# Altium footprint library DClassAmp_Footprints.PcbLib: 20 footprints (part 1 of 2)
Each footprint in its own frame and in the unit in brackets; x right, y up, seen from the top. Pads: shape width x height; smd on the part's side, far side on the other; paste and mask are expansions set on the pad; w line width, h text height; cw(c..) or ccw(c..) is an arc to the next point about the centre after c.
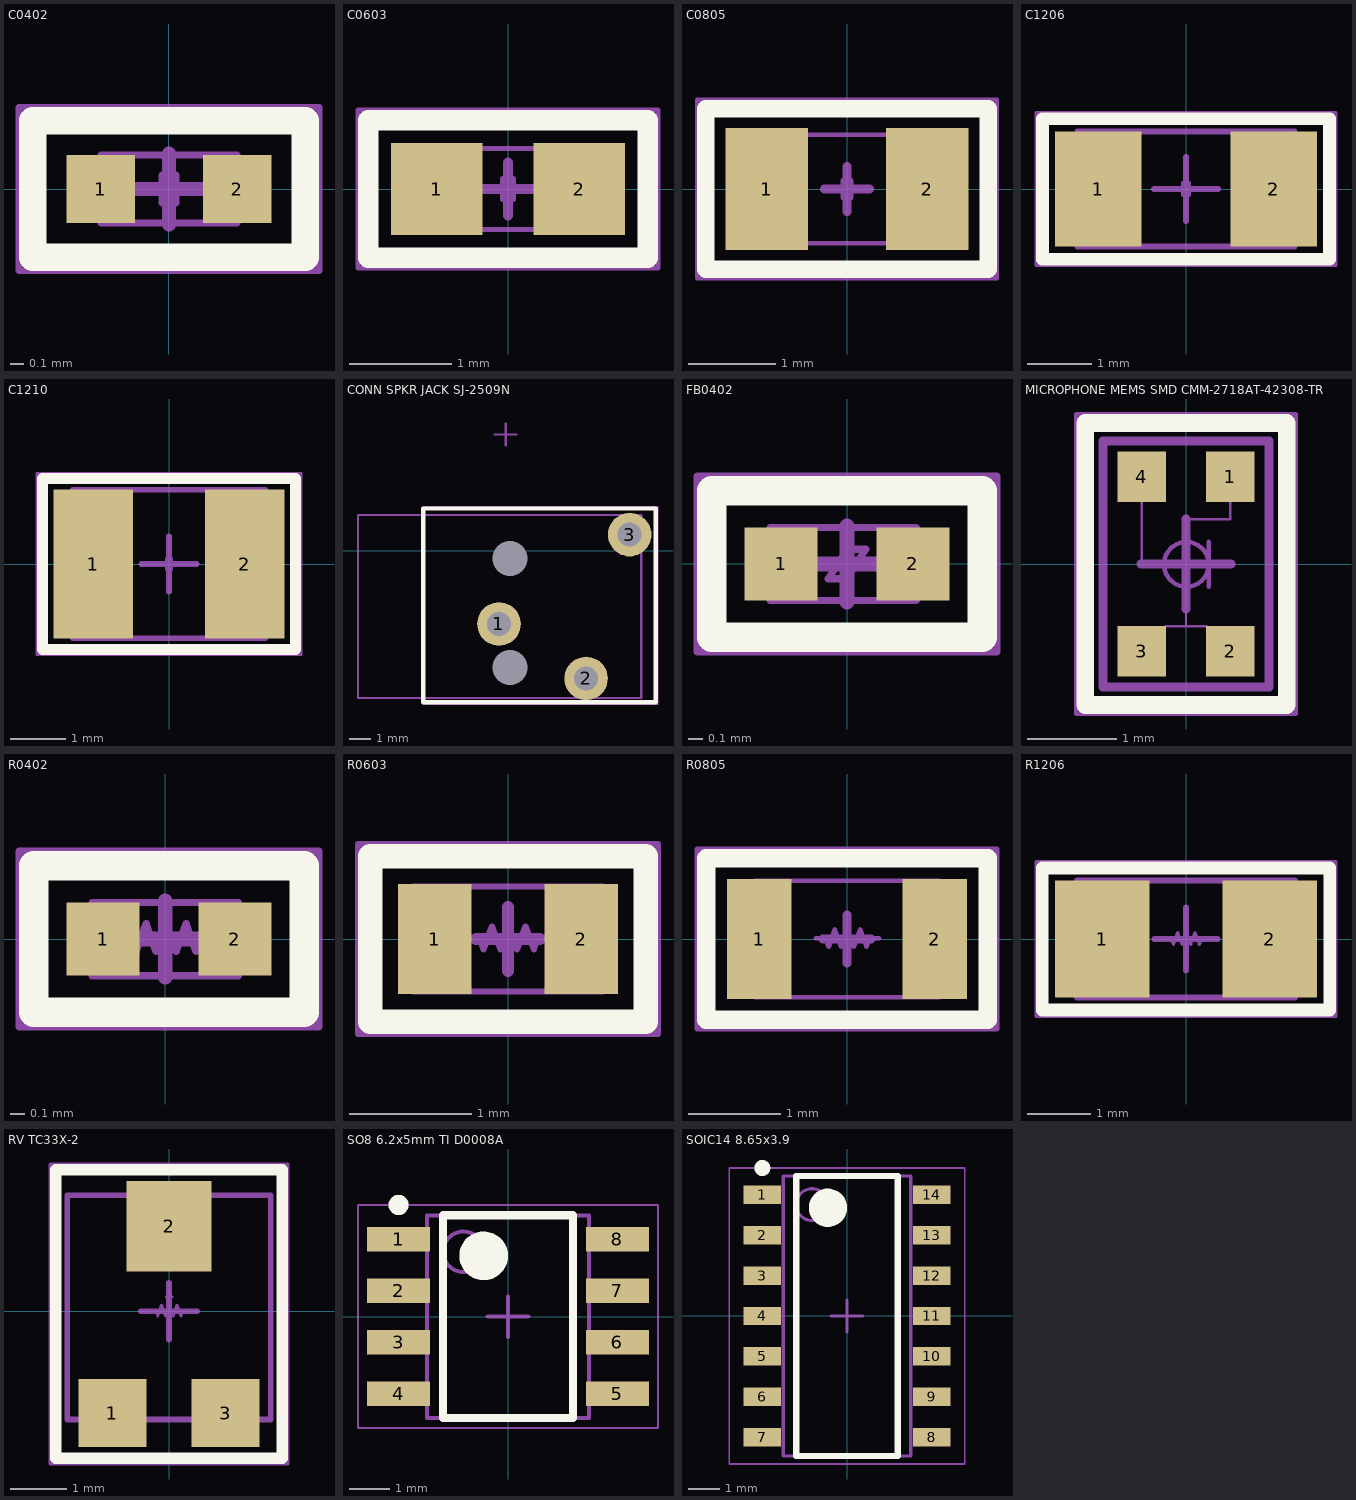
[diagram p0: the footprints below, top view; thin cyan lines are the x and y axes]

## C0402 [mm]
pads (2):
  rect 0.5x0.5 smd: 1(-0.5,0) 2(0.5,0)
Top Overlay:
  lines w0.2: -1,-0.5 1,-0.5 1,0.5 -1,0.5 -1,0 -1,-0.5
Mechanical 13:
  lines w0.05: -0.255,0 -0.052,0 ; -0.052,-0.102 -0.052,0.102 ; 0.052,-0.102 0.052,0.102 ; 0.052,0 0.255,0 ; -0.5,-0.25 0.5,-0.25 0.5,0.25 -0.5,0.25 -0.5,-0.25
Mechanical 15:
  lines w0.05: -1.1,-0.6 1.1,-0.6 1.1,0.6 -1.1,0.6 -1.1,-0.6
  lines w0.1: -0.26,0 0.26,0 ; 0,-0.26 0,0.26
3D body "User Library-SMD CAPACITOR.step": height 0.51, standoff 0.01, extent -0.5,-0.25 0.5,0.25

## C0603 [mm]
pads (2):
  rect 0.9x0.9 smd: 1(-0.7,0) 2(0.7,0)
Top Overlay:
  lines w0.2: -1.375,-0.675 -1.375,0.175 -1.375,0.675 1.375,0.675 1.375,-0.675 -1.375,-0.675
Mechanical 13:
  lines w0.05: -0.255,0 -0.052,0 ; -0.052,-0.102 -0.052,0.102 ; 0.052,-0.102 0.052,0.102 ; 0.052,0 0.255,0 ; -0.8,-0.4 0.8,-0.4 0.8,0.4 -0.8,0.4 -0.8,-0.4
Mechanical 15:
  lines w0.05: -1.475,-0.775 -1.475,0.775 1.475,0.775 1.475,-0.775 -1.475,-0.775
  lines w0.1: -0.26,0 0.26,0 ; 0,-0.26 0,0.26
3D body "User Library-SMD CAPACITOR (1).step": height 0.81, standoff 0.01, extent -0.8,-0.4 0.8,0.4

## C0805 [mm]
pads (2):
  rect 0.95x1.4 smd: 1(-0.925,0) 2(0.925,0)
Top Overlay:
  lines w0.2: -1.625,-0.925 -1.625,-0.425 -1.625,0.925 1.625,0.925 1.625,-0.925 -1.625,-0.925
Mechanical 13:
  lines w0.05: -0.255,0 -0.052,0 ; -0.052,-0.102 -0.052,0.102 ; 0.052,-0.102 0.052,0.102 ; 0.052,0 0.255,0 ; -1,-0.625 -1,0.625 1,0.625 1,-0.625 -1,-0.625
Mechanical 15:
  lines w0.05: -1.725,-1.025 1.725,-1.025 1.725,1.025 -1.725,1.025 -1.725,-1.025
  lines w0.1: -0.26,0 0.26,0 ; 0,-0.26 0,0.26
3D body "User Library-SMD CAPACITOR (2).step": height 0.61, standoff 0.01, extent -1,-0.625 1,0.625

## C1206 [mm] "Chip Capacitor, 2-Leads, Body 3.20x1.60mm, IPC Medium Density"
height 1.8
pads (2):
  rect 1.35x1.8 smd: 1(-1.375,0) 2(1.375,0)
Top Overlay:
  lines w0.2: -2.25,-1.1 -2.25,1.1 2.25,1.1 2.25,-1.1 -2.25,-1.1
Mechanical 13:
  lines w0.05: -0.255,0 -0.052,0 ; -0.052,-0.102 -0.052,0.102 ; 0.052,-0.102 0.052,0.102 ; 0.052,0 0.255,0
  lines w0.1: -1.7,-0.9 -1.7,0.9 1.7,0.9 1.7,-0.9 -1.7,-0.9
Mechanical 15:
  lines w0.05: -2.35,-1.2 -2.35,1.2 2.35,1.2 2.35,-1.2 -2.35,-1.2
  lines w0.1: -0.5,0 0.5,0 ; 0,-0.5 0,0.5
3D body "CAPCP3216X18N.step": height 1.8, standoff 0, extent -1.7,-0.9 1.7,0.9

## C1210 [mm] "Chip Capacitor, 2-Leads, Body 3.20x2.50mm, IPC Medium Density"
height 2.7
pads (2):
  rect 1.45x2.7 smd: 1(-1.375,0) 2(1.375,0)
Top Overlay:
  lines w0.2: -2.3,-1.55 -2.3,1.55 2.3,1.55 2.3,-1.55 -2.3,-1.55
Mechanical 13:
  lines w0.05: -0.255,0 -0.052,0 ; -0.052,-0.102 -0.052,0.102 ; 0.052,-0.102 0.052,0.102 ; 0.052,0 0.255,0
  lines w0.1: -1.75,-1.35 1.75,-1.35 1.75,1.35 -1.75,1.35 -1.75,-1.35
Mechanical 15:
  lines w0.05: -2.4,-1.65 2.4,-1.65 2.4,1.65 -2.4,1.65 -2.4,-1.65
  lines w0.1: -0.5,0 0.5,0 ; 0,-0.5 0,0.5
3D body "CAPCP3225X27N.step": height 2.7, standoff 0, extent -1.75,-1.35 1.75,1.35

## CONN SPKR JACK SJ-2509N [mm]
pads (5):
  round 2 hole 1.1: 1(-9.708,-3.365) 2(-5.708,-5.866) 3(-3.708,0.734)
  round 0 hole 1.6 unplated: 4(-9.208,-5.366) 5(-9.208,-0.366)
Top Overlay:
  lines w0.2: -13.179,-6.958 -13.179,1.934 -2.508,1.934 -2.508,-6.958 -13.179,-6.958
Mechanical 13:
  lines w0.1: -16.179,-6.758 -16.179,1.642 -3.179,1.642 -3.179,-6.758 -16.179,-6.758
Mechanical 15:
  lines w0.05: -13.179,-7.058 -13.179,2.034 -2.408,2.034 -2.408,-7.058 -13.179,-7.058
  lines w0.1: -9.898,5.334 -8.898,5.334 ; -9.398,4.834 -9.398,5.834
3D body "CUI_DEVICES_SJ-2509N.step": height 5.02, standoff -2.18, extent -16.179,-6.758 -3.179,1.642

## FB0402 [mm]
pads (2):
  rect 0.5x0.5 smd: 1(-0.45,0) 2(0.45,0)
Top Overlay:
  lines w0.2: -0.925,-0.5 -0.925,0.5 0.925,0.5 0.925,-0.5 -0.925,-0.5
Mechanical 13:
  lines w0.05: -0.267,0 -0.064,0 ; 0.267,0 0.064,0 ; -0.064,0 0,0.1 0.127,0.1 0.064,0 ; -0.064,0 -0.127,-0.1 0,-0.1 0.064,0 ; -0.525,-0.25 0.475,-0.25 0.475,0.25 -0.525,0.25 -0.525,-0.25
Mechanical 15:
  lines w0.05: -1.025,-0.6 1.025,-0.6 1.025,0.6 -1.025,0.6 -1.025,-0.6
  lines w0.1: -0.26,0 0.26,0 ; 0,-0.26 0,0.26
3D body "User Library-CR1005-0402.step": height 0.36, standoff 0.01, extent -0.525,-0.25 0.475,0.25

## MICROPHONE MEMS SMD CMM-2718AT-42308-TR [mm]
pads (4):
  rect 0.54x0.56 smd: 1(0.495,0.975) 2(0.495,-0.975) 3(-0.495,-0.975) 4(-0.495,0.975)
Top Overlay:
  lines w0.2: -1.125,-1.575 1.125,-1.575 1.125,1.575 -1.125,1.575 -1.125,-1.575
Mechanical 1:
  circle w0.05: c0.004,-0.004 r0.25
  lines w0.025: -0.495,0.695 -0.495,0 -0.246,0 ; -0.225,-0.695 0.225,-0.695 ; 0,-0.695 0,-0.254 ; 0,0.246 0,0.5 0.495,0.5 0.495,0.695
  lines w0.05: 0.254,-0.254 0.254,0.246
Mechanical 13:
  lines w0.1: -0.925,-1.375 0.925,-1.375 0.925,1.375 -0.925,1.375 -0.925,-1.375
Mechanical 15:
  lines w0.05: -1.225,-1.675 1.225,-1.675 1.225,1.675 -1.225,1.675 -1.225,-1.675
  lines w0.1: -0.5,0 0.5,0 ; 0,-0.5 0,0.5
3D body "CUI_DEVICES_CMM-2718AT-42308-TR.step": height 0.95, standoff 0, extent -0.925,-1.375 0.925,1.375

## R0402 [mm]
pads (2):
  rect 0.5x0.5 smd: 1(-0.425,0) 2(0.475,0)
Top Overlay:
  lines w0.2: -0.9,-0.5 -0.9,0.5 0.95,0.5 0.95,-0.5 -0.9,-0.5
Mechanical 13:
  lines w0.05: -0.335,0.009 -0.234,0.009 -0.2,-0.085 -0.131,0.103 -0.063,-0.085 0.006,0.103 0.074,-0.085 0.142,0.103 0.211,-0.085 0.245,0.009 0.347,0.009 ; -0.5,-0.25 0.5,-0.25 0.5,0.25 -0.5,0.25 -0.5,-0.25
Mechanical 15:
  lines w0.05: -1,-0.6 1.05,-0.6 1.05,0.6 -1,0.6 -1,-0.6
  lines w0.1: -0.26,0 0.26,0 ; 0,-0.26 0,0.26
3D body "User Library-CR1005-0402.step": height 0.36, standoff 0.01, extent -0.5,-0.25 0.5,0.25

## R0603 [mm]
pads (2):
  rect 0.6x0.9 smd: 1(-0.6,0) 2(0.6,0)
Top Overlay:
  lines w0.2: -1.125,-0.675 -1.125,0.175 -1.125,0.675 1.125,0.675 1.125,-0.675 -1.125,-0.675
Mechanical 13:
  lines w0.05: -0.335,0.01 -0.234,0.01 -0.199,-0.084 -0.131,0.103 -0.063,-0.084 0.006,0.103 0.074,-0.084 0.143,0.103 0.211,-0.084 0.245,0.01 0.347,0.01 ; -0.775,-0.43 -0.775,0.43 0.775,0.43 0.775,-0.43 -0.775,-0.43
Mechanical 15:
  lines w0.05: -1.225,-0.775 1.225,-0.775 1.225,0.775 -1.225,0.775 -1.225,-0.775
  lines w0.1: -0.26,0 0.26,0 ; 0,-0.26 0,0.26
3D body "User Library-SMD Resistors.step": height 0.46, standoff 0.01, extent -0.775,-0.43 0.775,0.43

## R0805 [mm]
pads (2):
  rect 0.7x1.3 smd: 1(-0.95,0) 2(0.95,0)
Top Overlay:
  lines w0.2: -1.525,-0.875 1.525,-0.875 1.525,0.875 -1.525,0.875 -1.525,0.125 -1.525,-0.875
Mechanical 13:
  lines w0.05: -0.335,0.009 -0.234,0.009 -0.2,-0.085 -0.131,0.103 -0.063,-0.085 0.006,0.103 0.074,-0.085 0.142,0.103 0.211,-0.085 0.245,0.009 0.347,0.009 ; -1,-0.63 1,-0.63 1,0.63 -1,0.63 -1,-0.63
Mechanical 15:
  lines w0.05: -1.625,-0.975 1.625,-0.975 1.625,0.975 -1.625,0.975 -1.625,-0.975
  lines w0.1: -0.26,0 0.26,0 ; 0,-0.26 0,0.26
3D body "User Library-SMD Resistors (1).step": height 0.46, standoff 0.01, extent -1,-0.63 1,0.63

## R1206 [mm] "Chip Resistor, 2-Leads, Body 3.20x1.60mm, IPC Medium Density"
height 0.65
pads (2):
  rect 1.5x1.85 smd: 1(-1.325,0) 2(1.325,0)
Top Overlay:
  lines w0.2: -2.275,-1.125 -2.275,1.125 2.275,1.125 2.275,-1.125 -2.275,-1.125
Mechanical 13:
  lines w0.05: -0.335,0.009 -0.234,0.009 -0.2,-0.085 -0.131,0.103 -0.063,-0.085 0.006,0.103 0.074,-0.085 0.142,0.103 0.211,-0.085 0.245,0.009 0.347,0.009
  lines w0.1: -1.725,-0.925 -1.725,0.925 1.725,0.925 1.725,-0.925 -1.725,-0.925
Mechanical 15:
  lines w0.05: -2.375,-1.225 -2.375,1.225 2.375,1.225 2.375,-1.225 -2.375,-1.225
  lines w0.1: -0.5,0 0.5,0 ; 0,-0.5 0,0.5
3D body "RESC3216X06N.step": height 0.65, standoff 0, extent -1.725,-0.925 1.725,0.925

## R2512 [mm]

## RV TC33X-2 [mm]
pads (3):
  rect 1.2x1.2 smd: 1(-1,-1.8) 3(1,-1.8)
  rect 1.5x1.6 smd: 2(0,1.5)
Top Overlay:
  lines w0.2: -2,-2.6 2,-2.6 2,2.5 -2,2.5 -2,-2.6
Mechanical 1:
  lines w0.05: -0.048,0.255 0.001,0.216 0.051,0.255
Mechanical 13:
  lines w0.05: -0.335,0.009 -0.234,0.009 -0.2,-0.085 -0.131,0.103 -0.063,-0.085 0.006,0.103 0.074,-0.085 0.142,0.103 0.211,-0.085 0.245,0.009 0.347,0.009 ; 0,0.5 0.001,0.216
  lines w0.1: -1.8,-1.913 1.8,-1.913 1.8,2.05 -1.8,2.05 -1.8,-1.913
Mechanical 15:
  lines w0.05: -2.1,-2.7 2.1,-2.7 2.1,2.6 -2.1,2.6 -2.1,-2.7
  lines w0.1: -0.5,0 0.5,0 ; 0,-0.5 0,0.5
3D body "TC-33X-2.stp": height 1.13, standoff -0.02, extent -1.8,-1.913 1.8,2.05

## SO8 6.2x5mm TI D0008A [mm]
height 1.75
pads (8):
  rect 1.55x0.6 smd: 1(-2.7,1.905) 2(-2.7,0.635) 3(-2.7,-0.635) 4(-2.7,-1.905) 5(2.7,-1.905) 6(2.7,-0.635) 7(2.7,0.635) 8(2.7,1.905)
Top Overlay:
  circle w0.6: c-0.6,1.5 r0.3
  circle w0.25: c-2.7,2.755 r0.125
  lines w0.2: -1.6,-2.5 1.6,-2.5 1.6,2.5 -1.6,2.5 -1.6,-2.5
Mechanical 13:
  circle w0.1: c-1.1,1.6 r0.5
  lines w0.1: -2,-2.5 2,-2.5 2,2.5 -2,2.5 -2,-2.5
Mechanical 15:
  lines w0.05: -3.7,-2.75 3.7,-2.75 3.7,2.75 -3.7,2.75 -3.7,-2.75
  lines w0.1: -0.5,0 0.5,0 ; 0,-0.5 0,0.5
3D body "NE5532DR.STEP": height 1.75, standoff 0, extent -3,-2.45 3,2.45

## SOIC14 8.65x3.9 [mm] "SOIC, 14-Leads, Body 8.65x3.90mm, Pitch 1.27mm, IPC Medium Density"
height 1.75
pads (14):
  rect 1.18x0.58 smd: 1(-2.66,3.81) 2(-2.66,2.54) 3(-2.66,1.27) 4(-2.66,0) 5(-2.66,-1.27) 6(-2.66,-2.54) 7(-2.66,-3.81) 8(2.66,-3.81) 9(2.66,-2.54) 10(2.66,-1.27) 11(2.66,0) 12(2.66,1.27) 13(2.66,2.54) 14(2.66,3.81)
Top Overlay:
  circle w0.6: c-0.6,3.4 r0.3
  circle w0.25: c-2.66,4.65 r0.125
  lines w0.2: -1.6,-4.4 1.6,-4.4 1.6,4.4 -1.6,4.4 -1.6,-4.4
Mechanical 13:
  circle w0.1: c-1.1,3.5 r0.5
  lines w0.1: -2,-4.4 2,-4.4 2,4.4 -2,4.4 -2,-4.4
Mechanical 15:
  lines w0.05: -3.7,-4.65 3.7,-4.65 3.7,4.65 -3.7,4.65 -3.7,-4.65
  lines w0.1: -0.5,0 0.5,0 ; 0,-0.5 0,0.5
3D body "SOIC14 8.65x3.9.step": height 1.75, standoff 0, extent -3,-4.4 3,4.4